# Altium schematic symbol library NCP164CSN330T1G.SchLib: 2 symbols
Pins are listed as number, name and electrical type; pins without a type are passive.

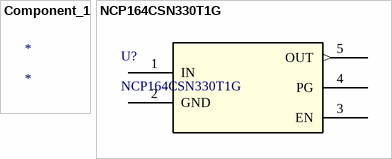
[diagram p0: symbols Component_1 to NCP164CSN330T1G]

## Component_1
designator *

## NCP164CSN330T1G
designator U?
No Description Available; Mfr_Name: onsemi; Copyright: Copyright (C) 2022 Ultra Librarian. All rights reserved.; Manufacturer_Part_Number: NCP164CSN330T1G; RefDes: RefDes; Type: DEV
footprint FP-NCP164CSN330T1G_OSI
pins: 1 IN (power), 2 GND, 3 EN, 4 PG, 5 OUT (out)